# Altium footprint library STM32F407ZGT6_CORE_BOARD.PcbLib: 21 footprints (part 1 of 2)
Each footprint in its own frame and in the unit in brackets; x right, y up, seen from the top. Pads: shape width x height; smd on the part's side, far side on the other; paste and mask are expansions set on the pad; w line width, h text height; cw(c..) or ccw(c..) is an arc to the next point about the centre after c.
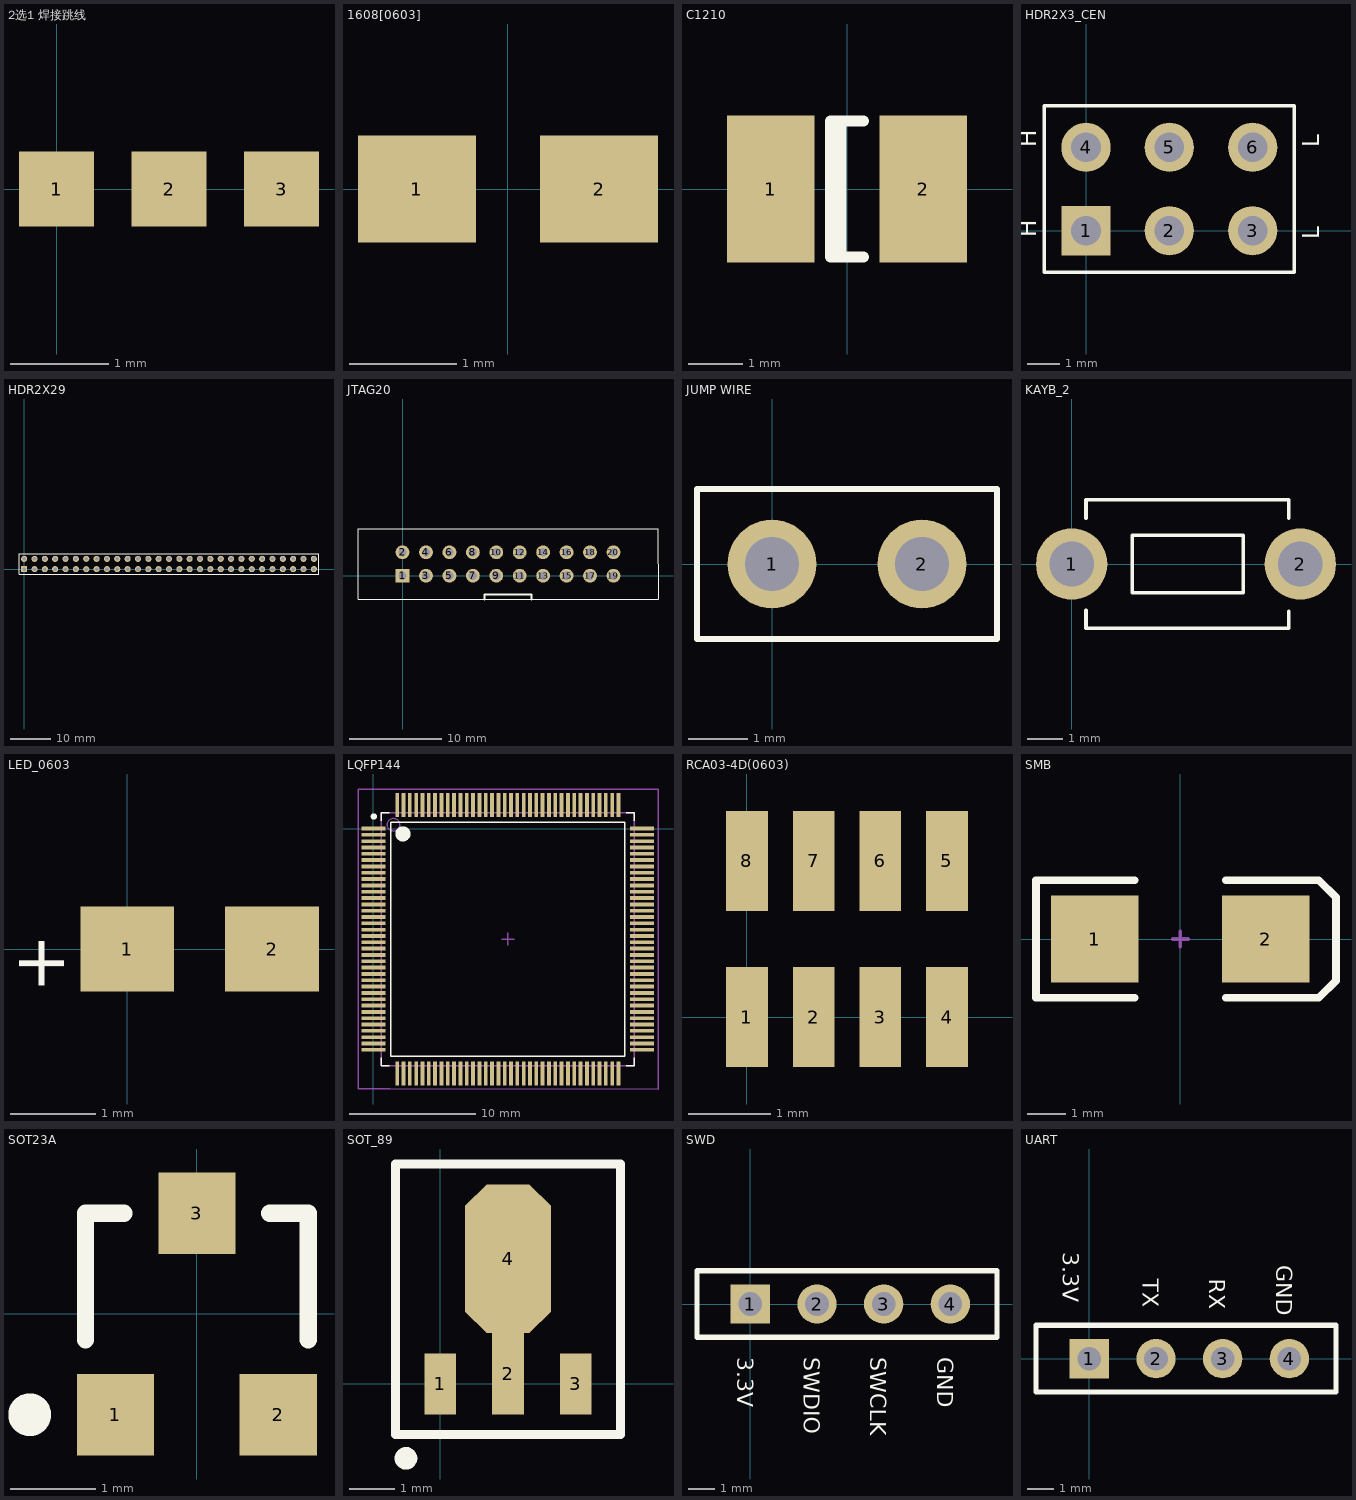
[diagram p0: the footprints below, top view; thin cyan lines are the x and y axes]

## 2选1 焊接跳线 [mil]
pads (3):
  rect 30x30 smd: 1(0,0) 2(45,0) 3(90,0)

## 1608[0603] [mm] "Chip Capacitor; Body 1.6 x 0.8 mm (LxW typ)"
height 1.35
pads (2):
  rect 1.1x1 smd: 1(-0.85,0) 2(0.85,0)

## C1210 [mm] "Chip Capacitor; Body 3.2 x 2.5 mm (LxW typ)"
height 1.35
pads (2):
  rect 1.6x2.7 smd: 1(-1.4,0) 2(1.4,0)
Top Overlay:
  lines w0.2: -0.11,-1.25 -0.11,1.25 ; 0.3,-1.25 -0.3,-1.25 -0.3,1.25 0.3,1.25

## HDR2X3_CEN [mm] "Connector; Header; 3x2 Position"
pads (6):
  rect 1.5x1.5 hole 0.9: 1(0,0)
  round 1.5 hole 0.9: 2(2.54,0) 3(5.08,0) 4(0,2.54) 5(2.54,2.54) 6(5.08,2.54)
Top Overlay:
  lines w0.102: -1.27,-1.27 6.35,-1.27 6.35,3.81 -1.27,3.81 -1.27,-1.27
  text "L" at 7.112,2.54 h0.51
  text "L" at 7.112,-0.254 h0.51
  text "H" at -1.524,-0.203 h0.51
  text "H" at -1.524,2.54 h0.51

## HDR2X29 [mm] "Connector; Header; 29x2 Position"
pads (58):
  rect 1.5x1.5 hole 0.9: 1(0,0)
  round 1.5 hole 0.9: 2(0,2.54) 3(2.54,0) 4(2.54,2.54) 5(5.08,0) 6(5.08,2.54) 7(7.62,0) 8(7.62,2.54) 9(10.16,0) 10(10.16,2.54) 11(12.7,0) 12(12.7,2.54) 13(15.24,0) 14(15.24,2.54) 15(17.78,0) 16(17.78,2.54) 17(20.32,0) 18(20.32,2.54) 19(22.86,0) 20(22.86,2.54) 21(25.4,0) 22(25.4,2.54) 23(27.94,0) 24(27.94,2.54) 25(30.48,0) 26(30.48,2.54) 27(33.02,0) 28(33.02,2.54) 29(35.56,0) 30(35.56,2.54) 31(38.1,0) 32(38.1,2.54) 33(40.64,0) 34(40.64,2.54) 35(43.18,0) 36(43.18,2.54) 37(45.72,0) 38(45.72,2.54) 39(48.26,0) 40(48.26,2.54) 41(50.8,0) 42(50.8,2.54) 43(53.34,0) 44(53.34,2.54) 45(55.88,0) 46(55.88,2.54) 47(58.42,0) 48(58.42,2.54) 49(60.96,0) 50(60.96,2.54) 51(63.5,0) 52(63.5,2.54) 53(66.04,0) 54(66.04,2.54) 55(68.58,0) 56(68.58,2.54) 57(71.12,0) 58(71.12,2.54)
Top Overlay:
  lines w0.102: -1.27,-1.27 72.39,-1.27 72.39,3.81 -1.27,3.81 -1.27,-1.27

## JTAG20 [mm] "Pitch 2.54mm"
pads (20):
  rect 1.5x1.5 hole 0.9: 1(0,0)
  round 1.5 hole 0.9: 2(0,2.54) 3(2.54,0) 4(2.54,2.54) 5(5.08,0) 6(5.08,2.54) 7(7.62,0) 8(7.62,2.54) 9(10.16,0) 10(10.16,2.54) 11(12.7,0) 12(12.7,2.54) 13(15.24,0) 14(15.24,2.54) 15(17.78,0) 16(17.78,2.54) 17(20.32,0) 18(20.32,2.54) 19(22.86,0) 20(22.86,2.54)
Top Overlay:
  lines w0.102: -4.826,-2.54 1.905,-2.54 27.686,-2.54 27.686,5.08 1.905,5.08 -4.826,5.08 -4.826,-2.54
  lines w0.254: 8.89,-2.54 8.89,-2.032 13.97,-2.032 13.97,-2.54
Bottom Overlay:
  text "2" at -1.27,2.335 h0.61
  text "1" at -1.27,-0.459 h0.61
  text "20" at 25.019,2.286 h0.61
  text "19" at 25.019,-0.254 h0.61

## JUMP WIRE [mm] "2Leads,Pitch2.54mm[100mil],Hole0.9144mm[36mil]"
pads (2):
  round 1.5 hole 0.914: 1(0,0) 2(2.54,0)
Top Overlay:
  lines w0.102: -1.27,-1.27 -1.27,1.27 3.81,1.27 3.81,-1.27 -1.27,-1.27

## KAYB_2 [mil] "2Leads,Pitch6.5mm,Hole1.016mm[40mil]  1.3mm"
pads (2):
  round 80 hole 50: 1(0,0) 2(255.91,0)
Top Overlay:
  lines w4: 16,-52 16,-72 243,-72 243,-53 ; 16,51 16,72 243,72 243,51 ; 68,-32 68,32 192,32 192,-32 68,-32

## LED_0603 [mm]
pads (2):
  rect 1.1x1 smd: 1(0,0) 2(1.7,0)
Top Overlay:
  text "+" at -1.27,0.178 h0.61

## LQFP144 [mm]
pads (144):
  rect 1.9x0.3 smd: 1(0,0) 2(0,-0.5) 3(0,-1) 4(0,-1.5) 5(0,-2) 6(0,-2.5) 7(0,-3) 8(0,-3.5) 9(0,-4) 10(0,-4.5) 11(0,-5) 12(0,-5.5) 13(0,-6) 14(0,-6.5) 15(0,-7) 16(0,-7.5) 17(0,-8) 18(0,-8.5) 19(0,-9) 20(0,-9.5) 21(0,-10) 22(0,-10.5) 23(0,-11) 24(0,-11.5) 25(0,-12) 26(0,-12.5) 27(0,-13) 28(0,-13.5) 29(0,-14) 30(0,-14.5) 31(0,-15) 32(0,-15.5) 33(0,-16) 34(0,-16.5) 35(0,-17) 36(0,-17.5) 73(21.25,-17.5) 74(21.25,-17) 75(21.25,-16.5) 76(21.25,-16) 77(21.25,-15.5) 78(21.25,-15) 79(21.25,-14.5) 80(21.25,-14) 81(21.25,-13.5) 82(21.25,-13) 83(21.25,-12.5) 84(21.25,-12) 85(21.25,-11.5) 86(21.25,-11) 87(21.25,-10.5) 88(21.25,-10) 89(21.25,-9.5) 90(21.25,-9) 91(21.25,-8.5) 92(21.25,-8) 93(21.25,-7.5) 94(21.25,-7) 95(21.25,-6.5) 96(21.25,-6) 97(21.25,-5.5) 98(21.25,-5) 99(21.25,-4.5) 100(21.25,-4) 101(21.25,-3.5) 102(21.25,-3) 103(21.25,-2.5) 104(21.25,-2) 105(21.25,-1.5) 106(21.25,-1) 107(21.25,-0.5) 108(21.25,0)
  rect 0.3x1.9 smd: 37(1.875,-19.375) 38(2.375,-19.375) 39(2.875,-19.375) 40(3.375,-19.375) 41(3.875,-19.375) 42(4.375,-19.375) 43(4.875,-19.375) 44(5.375,-19.375) 45(5.875,-19.375) 46(6.375,-19.375) 47(6.875,-19.375) 48(7.375,-19.375) 49(7.875,-19.375) 50(8.375,-19.375) 51(8.875,-19.375) 52(9.375,-19.375) 53(9.875,-19.375) 54(10.375,-19.375) 55(10.875,-19.375) 56(11.375,-19.375) 57(11.875,-19.375) 58(12.375,-19.375) 59(12.875,-19.375) 60(13.375,-19.375) 61(13.875,-19.375) 62(14.375,-19.375) 63(14.875,-19.375) 64(15.375,-19.375) 65(15.875,-19.375) 66(16.375,-19.375) 67(16.875,-19.375) 68(17.375,-19.375) 69(17.875,-19.375) 70(18.375,-19.375) 71(18.875,-19.375) 72(19.375,-19.375) 109(19.375,1.875) 110(18.875,1.875) 111(18.375,1.875) 112(17.875,1.875) 113(17.375,1.875) 114(16.875,1.875) 115(16.375,1.875) 116(15.875,1.875) 117(15.375,1.875) 118(14.875,1.875) 119(14.375,1.875) 120(13.875,1.875) 121(13.375,1.875) 122(12.875,1.875) 123(12.375,1.875) 124(11.875,1.875) 125(11.375,1.875) 126(10.875,1.875) 127(10.375,1.875) 128(9.875,1.875) 129(9.375,1.875) 130(8.875,1.875) 131(8.375,1.875) 132(7.875,1.875) 133(7.375,1.875) 134(6.875,1.875) 135(6.375,1.875) 136(5.875,1.875) 137(5.375,1.875) 138(4.875,1.875) 139(4.375,1.875) 140(3.875,1.875) 141(3.375,1.875) 142(2.875,1.875) 143(2.375,1.875) 144(1.875,1.875)
Top Overlay:
  circle w0.25: c0.025,0.95 r0.125
  circle w0.6: c2.325,-0.425 r0.3
  lines w0.102: 0.625,-18.125 0.625,-18.75 1.25,-18.75 ; 0.625,0.625 0.625,1.25 1.25,1.25 ; 1.625,0.5 19.875,0.5 19.875,-18 1.35,-18 1.35,0.5 2.7,0.5 ; 20,-18.75 20.625,-18.75 20.625,-18.125 ; 20,1.25 20.625,1.25 20.625,0.625
Mechanical 13:
  circle w0.1: c1.575,0.3 r0.5
  lines w0.1: 0.625,-18.75 0.625,1.25 20.625,1.25 20.625,-18.75 0.625,-18.75
Mechanical 15:
  lines w0.1: 1.275,-20.6 22.5,-20.6 22.5,3.125 ; 10.125,-8.75 11.125,-8.75 ; 10.625,-9.25 10.625,-8.25
  lines w0.102: 1.275,-20.6 -1.225,-20.6 -1.225,3.125 22.5,3.125
3D body: height 10, standoff 6.3, extent 0.625,-18.75 20.625,1.25
3D body: height 7, standoff 0, extent 0.254,-0.102 0.356,0.102
3D body: height 0.1, standoff 0, extent -0.305,-0.102 0.254,0.102
3D body: height 0.1, standoff 0, extent -0.305,-0.602 0.254,-0.398
3D body: height 7, standoff 0, extent 0.254,-0.602 0.356,-0.398
3D body: height 0.1, standoff 0, extent -0.305,-1.102 0.254,-0.898
3D body: height 7, standoff 0, extent 0.254,-1.102 0.356,-0.898
3D body: height 0.1, standoff 0, extent -0.305,-1.602 0.254,-1.398
3D body: height 7, standoff 0, extent 0.254,-1.602 0.356,-1.398
3D body: height 0.1, standoff 0, extent -0.305,-2.102 0.254,-1.898
3D body: height 7, standoff 0, extent 0.254,-2.102 0.356,-1.898
3D body: height 0.1, standoff 0, extent -0.305,-2.602 0.254,-2.398
3D body: height 7, standoff 0, extent 0.254,-2.602 0.356,-2.398
3D body: height 0.1, standoff 0, extent -0.305,-2.602 0.254,-2.398
3D body: height 7, standoff 0, extent 0.254,-2.602 0.356,-2.398
3D body: height 0.1, standoff 0, extent -0.305,-3.102 0.254,-2.898
3D body: height 7, standoff 0, extent 0.254,-3.102 0.356,-2.898
3D body: height 0.1, standoff 0, extent -0.305,-3.602 0.254,-3.398
3D body: height 7, standoff 0, extent 0.254,-3.602 0.356,-3.398
3D body: height 0.1, standoff 0, extent -0.305,-4.102 0.254,-3.898
3D body: height 7, standoff 0, extent 0.254,-4.102 0.356,-3.898
3D body: height 0.1, standoff 0, extent -0.305,-4.602 0.254,-4.398
3D body: height 7, standoff 0, extent 0.254,-4.602 0.356,-4.398
3D body: height 0.1, standoff 0, extent -0.305,-5.102 0.254,-4.898
3D body: height 7, standoff 0, extent 0.254,-5.102 0.356,-4.898
3D body: height 0.1, standoff 0, extent -0.305,-5.602 0.254,-5.398
3D body: height 7, standoff 0, extent 0.254,-5.602 0.356,-5.398
3D body: height 0.1, standoff 0, extent -0.305,-6.102 0.254,-5.898
3D body: height 7, standoff 0, extent 0.254,-6.102 0.356,-5.898
3D body: height 0.1, standoff 0, extent -0.305,-6.602 0.254,-6.398
3D body: height 7, standoff 0, extent 0.254,-6.602 0.356,-6.398
3D body: height 0.1, standoff 0, extent -0.305,-7.102 0.254,-6.898
3D body: height 7, standoff 0, extent 0.254,-7.102 0.356,-6.898
3D body: height 0.1, standoff 0, extent -0.305,-7.602 0.254,-7.398
3D body: height 7, standoff 0, extent 0.254,-7.602 0.356,-7.398
3D body: height 0.1, standoff 0, extent -0.305,-8.102 0.254,-7.898
3D body: height 7, standoff 0, extent 0.254,-8.102 0.356,-7.898
3D body: height 0.1, standoff 0, extent -0.305,-8.602 0.254,-8.398
3D body: height 7, standoff 0, extent 0.254,-8.602 0.356,-8.398
3D body: height 0.1, standoff 0, extent -0.305,-9.102 0.254,-8.898
3D body: height 7, standoff 0, extent 0.254,-9.102 0.356,-8.898
3D body: height 0.1, standoff 0, extent -0.305,-9.602 0.254,-9.398
3D body: height 7, standoff 0, extent 0.254,-9.602 0.356,-9.398
3D body: height 0.1, standoff 0, extent -0.305,-10.102 0.254,-9.898
3D body: height 7, standoff 0, extent 0.254,-10.102 0.356,-9.898
3D body: height 0.1, standoff 0, extent -0.305,-10.602 0.254,-10.398
3D body: height 7, standoff 0, extent 0.254,-10.602 0.356,-10.398
3D body: height 0.1, standoff 0, extent -0.305,-11.102 0.254,-10.898
3D body: height 7, standoff 0, extent 0.254,-11.102 0.356,-10.898
3D body: height 0.1, standoff 0, extent -0.305,-11.602 0.254,-11.398
3D body: height 7, standoff 0, extent 0.254,-11.602 0.356,-11.398
3D body: height 0.1, standoff 0, extent -0.305,-12.102 0.254,-11.898
3D body: height 7, standoff 0, extent 0.254,-12.102 0.356,-11.898
3D body: height 0.1, standoff 0, extent -0.305,-12.602 0.254,-12.398
3D body: height 7, standoff 0, extent 0.254,-12.602 0.356,-12.398
3D body: height 0.1, standoff 0, extent -0.305,-13.102 0.254,-12.898
3D body: height 7, standoff 0, extent 0.254,-13.102 0.356,-12.898
3D body: height 0.1, standoff 0, extent -0.305,-13.602 0.254,-13.398
3D body: height 7, standoff 0, extent 0.254,-13.602 0.356,-13.398
3D body: height 0.1, standoff 0, extent -0.305,-14.102 0.254,-13.898
3D body: height 7, standoff 0, extent 0.254,-14.102 0.356,-13.898
3D body: height 0.1, standoff 0, extent -0.305,-14.602 0.254,-14.398
3D body: height 7, standoff 0, extent 0.254,-14.602 0.356,-14.398
3D body: height 0.1, standoff 0, extent -0.305,-15.102 0.254,-14.898
3D body: height 7, standoff 0, extent 0.254,-15.102 0.356,-14.898
3D body: height 0.1, standoff 0, extent -0.305,-15.602 0.254,-15.398
3D body: height 7, standoff 0, extent 0.254,-15.602 0.356,-15.398
3D body: height 0.1, standoff 0, extent -0.305,-16.102 0.254,-15.898
3D body: height 7, standoff 0, extent 0.254,-16.102 0.356,-15.898
3D body: height 0.1, standoff 0, extent -0.305,-16.602 0.254,-16.398
3D body: height 7, standoff 0, extent 0.254,-16.602 0.356,-16.398
3D body: height 0.1, standoff 0, extent -0.305,-17.102 0.254,-16.898
3D body: height 7, standoff 0, extent 0.254,-17.102 0.356,-16.898
3D body: height 0.1, standoff 0, extent -0.305,-17.602 0.254,-17.398
3D body: height 7, standoff 0, extent 0.254,-17.602 0.356,-17.398
3D body: height 7, standoff 0, extent 1.773,1.519 1.977,1.621
3D body: height 0.1, standoff 0, extent 1.773,1.621 1.977,2.18
3D body: height 7, standoff 0, extent 2.273,1.519 2.477,1.621
3D body: height 0.1, standoff 0, extent 2.273,1.621 2.477,2.18
3D body: height 7, standoff 0, extent 2.773,1.519 2.977,1.621
3D body: height 0.1, standoff 0, extent 2.773,1.621 2.977,2.18
3D body: height 7, standoff 0, extent 3.273,1.519 3.477,1.621
3D body: height 0.1, standoff 0, extent 3.273,1.621 3.477,2.18
3D body: height 7, standoff 0, extent 3.773,1.519 3.977,1.621
3D body: height 0.1, standoff 0, extent 3.773,1.621 3.977,2.18
3D body: height 7, standoff 0, extent 4.273,1.519 4.477,1.621
3D body: height 0.1, standoff 0, extent 4.273,1.621 4.477,2.18
3D body: height 7, standoff 0, extent 4.773,1.519 4.977,1.621
3D body: height 0.1, standoff 0, extent 4.773,1.621 4.977,2.18
3D body: height 7, standoff 0, extent 5.273,1.519 5.477,1.621
3D body: height 0.1, standoff 0, extent 5.273,1.621 5.477,2.18
3D body: height 7, standoff 0, extent 5.773,1.519 5.977,1.621
3D body: height 0.1, standoff 0, extent 5.773,1.621 5.977,2.18
3D body: height 7, standoff 0, extent 6.273,1.519 6.477,1.621
3D body: height 0.1, standoff 0, extent 6.273,1.621 6.477,2.18
3D body: height 7, standoff 0, extent 6.773,1.519 6.977,1.621
3D body: height 0.1, standoff 0, extent 6.773,1.621 6.977,2.18
3D body: height 7, standoff 0, extent 7.273,1.519 7.477,1.621
3D body: height 0.1, standoff 0, extent 7.273,1.621 7.477,2.18
3D body: height 7, standoff 0, extent 7.773,1.519 7.977,1.621
3D body: height 0.1, standoff 0, extent 7.773,1.621 7.977,2.18
3D body: height 7, standoff 0, extent 8.273,1.519 8.477,1.621
3D body: height 0.1, standoff 0, extent 8.273,1.621 8.477,2.18
3D body: height 7, standoff 0, extent 8.773,1.519 8.977,1.621
3D body: height 0.1, standoff 0, extent 8.773,1.621 8.977,2.18
3D body: height 7, standoff 0, extent 9.273,1.519 9.477,1.621
3D body: height 0.1, standoff 0, extent 9.273,1.621 9.477,2.18
3D body: height 7, standoff 0, extent 9.773,1.519 9.977,1.621
3D body: height 0.1, standoff 0, extent 9.773,1.621 9.977,2.18
3D body: height 7, standoff 0, extent 10.273,1.519 10.477,1.621
3D body: height 0.1, standoff 0, extent 10.273,1.621 10.477,2.18
3D body: height 7, standoff 0, extent 10.773,1.519 10.977,1.621
3D body: height 0.1, standoff 0, extent 10.773,1.621 10.977,2.18
3D body: height 7, standoff 0, extent 11.273,1.519 11.477,1.621
3D body: height 0.1, standoff 0, extent 11.273,1.621 11.477,2.18
3D body: height 7, standoff 0, extent 11.773,1.519 11.977,1.621
3D body: height 0.1, standoff 0, extent 11.773,1.621 11.977,2.18
3D body: height 7, standoff 0, extent 12.273,1.519 12.477,1.621
3D body: height 0.1, standoff 0, extent 12.273,1.621 12.477,2.18
3D body: height 7, standoff 0, extent 12.773,1.519 12.977,1.621
3D body: height 0.1, standoff 0, extent 12.773,1.621 12.977,2.18
3D body: height 7, standoff 0, extent 13.273,1.519 13.477,1.621
3D body: height 0.1, standoff 0, extent 13.273,1.621 13.477,2.18
3D body: height 7, standoff 0, extent 13.773,1.519 13.977,1.621
3D body: height 0.1, standoff 0, extent 13.773,1.621 13.977,2.18
3D body: height 7, standoff 0, extent 14.273,1.519 14.477,1.621
3D body: height 0.1, standoff 0, extent 14.273,1.621 14.477,2.18
3D body: height 7, standoff 0, extent 14.773,1.519 14.977,1.621
3D body: height 0.1, standoff 0, extent 14.773,1.621 14.977,2.18
3D body: height 7, standoff 0, extent 15.273,1.519 15.477,1.621
3D body: height 0.1, standoff 0, extent 15.273,1.621 15.477,2.18
3D body: height 7, standoff 0, extent 15.773,1.519 15.977,1.621
3D body: height 0.1, standoff 0, extent 15.773,1.621 15.977,2.18
3D body: height 7, standoff 0, extent 16.273,1.519 16.477,1.621
3D body: height 0.1, standoff 0, extent 16.273,1.621 16.477,2.18
3D body: height 7, standoff 0, extent 16.773,1.519 16.977,1.621
3D body: height 0.1, standoff 0, extent 16.773,1.621 16.977,2.18
3D body: height 7, standoff 0, extent 16.773,1.519 16.977,1.621
3D body: height 0.1, standoff 0, extent 16.773,1.621 16.977,2.18
3D body: height 7, standoff 0, extent 17.273,1.519 17.477,1.621
3D body: height 0.1, standoff 0, extent 17.273,1.621 17.477,2.18
3D body: height 7, standoff 0, extent 17.773,1.519 17.977,1.621
3D body: height 0.1, standoff 0, extent 17.773,1.621 17.977,2.18
3D body: height 7, standoff 0, extent 18.273,1.519 18.477,1.621
3D body: height 0.1, standoff 0, extent 18.273,1.621 18.477,2.18
3D body: height 7, standoff 0, extent 18.773,1.519 18.977,1.621
3D body: height 0.1, standoff 0, extent 18.773,1.621 18.977,2.18
3D body: height 0.1, standoff 0, extent 19.273,1.621 19.477,2.18
3D body: height 7, standoff 0, extent 19.273,1.519 19.477,1.621
3D body: height 7, standoff 0, extent 20.894,-0.102 20.996,0.102
3D body: height 0.1, standoff 0, extent 20.996,-0.102 21.555,0.102
3D body: height 7, standoff 0, extent 20.894,-0.602 20.996,-0.398
3D body: height 0.1, standoff 0, extent 20.996,-0.602 21.555,-0.398
3D body: height 7, standoff 0, extent 20.894,-1.102 20.996,-0.898
3D body: height 0.1, standoff 0, extent 20.996,-1.102 21.555,-0.898
3D body: height 7, standoff 0, extent 20.894,-1.602 20.996,-1.398
3D body: height 0.1, standoff 0, extent 20.996,-1.602 21.555,-1.398
3D body: height 7, standoff 0, extent 20.894,-2.102 20.996,-1.898
3D body: height 0.1, standoff 0, extent 20.996,-2.102 21.555,-1.898
3D body: height 7, standoff 0, extent 20.894,-2.602 20.996,-2.398
3D body: height 0.1, standoff 0, extent 20.996,-2.602 21.555,-2.398
3D body: height 7, standoff 0, extent 20.894,-3.102 20.996,-2.898
3D body: height 0.1, standoff 0, extent 20.996,-3.102 21.555,-2.898
3D body: height 7, standoff 0, extent 20.894,-3.602 20.996,-3.398
3D body: height 0.1, standoff 0, extent 20.996,-3.602 21.555,-3.398
3D body: height 7, standoff 0, extent 20.894,-4.102 20.996,-3.898
3D body: height 0.1, standoff 0, extent 20.996,-4.102 21.555,-3.898
3D body: height 7, standoff 0, extent 20.894,-4.602 20.996,-4.398
3D body: height 0.1, standoff 0, extent 20.996,-4.602 21.555,-4.398
3D body: height 7, standoff 0, extent 20.894,-5.102 20.996,-4.898
3D body: height 0.1, standoff 0, extent 20.996,-5.102 21.555,-4.898
3D body: height 7, standoff 0, extent 20.894,-5.602 20.996,-5.398
3D body: height 0.1, standoff 0, extent 20.996,-5.602 21.555,-5.398
3D body: height 7, standoff 0, extent 20.894,-6.102 20.996,-5.898
3D body: height 0.1, standoff 0, extent 20.996,-6.102 21.555,-5.898
3D body: height 7, standoff 0, extent 20.894,-6.602 20.996,-6.398
3D body: height 0.1, standoff 0, extent 20.996,-6.602 21.555,-6.398
3D body: height 7, standoff 0, extent 20.894,-7.102 20.996,-6.898
3D body: height 0.1, standoff 0, extent 20.996,-7.102 21.555,-6.898
3D body: height 7, standoff 0, extent 20.894,-7.602 20.996,-7.398
3D body: height 0.1, standoff 0, extent 20.996,-7.602 21.555,-7.398
3D body: height 7, standoff 0, extent 20.894,-8.102 20.996,-7.898
3D body: height 0.1, standoff 0, extent 20.996,-8.102 21.555,-7.898
3D body: height 7, standoff 0, extent 20.894,-8.602 20.996,-8.398
3D body: height 0.1, standoff 0, extent 20.996,-8.602 21.555,-8.398
3D body: height 7, standoff 0, extent 20.894,-9.102 20.996,-8.898
3D body: height 0.1, standoff 0, extent 20.996,-9.102 21.555,-8.898
3D body: height 7, standoff 0, extent 20.894,-9.602 20.996,-9.398
3D body: height 0.1, standoff 0, extent 20.996,-9.602 21.555,-9.398
3D body: height 7, standoff 0, extent 20.894,-10.102 20.996,-9.898
3D body: height 0.1, standoff 0, extent 20.996,-10.102 21.555,-9.898
3D body: height 7, standoff 0, extent 20.894,-10.602 20.996,-10.398
3D body: height 0.1, standoff 0, extent 20.996,-10.602 21.555,-10.398
3D body: height 7, standoff 0, extent 20.894,-11.102 20.996,-10.898
3D body: height 0.1, standoff 0, extent 20.996,-11.102 21.555,-10.898
3D body: height 7, standoff 0, extent 20.894,-11.602 20.996,-11.398
3D body: height 0.1, standoff 0, extent 20.996,-11.602 21.555,-11.398
3D body: height 7, standoff 0, extent 20.894,-12.102 20.996,-11.898
3D body: height 0.1, standoff 0, extent 20.996,-12.102 21.555,-11.898
3D body: height 7, standoff 0, extent 20.894,-12.602 20.996,-12.398
3D body: height 0.1, standoff 0, extent 20.996,-12.602 21.555,-12.398
3D body: height 7, standoff 0, extent 20.894,-13.102 20.996,-12.898
3D body: height 0.1, standoff 0, extent 20.996,-13.102 21.555,-12.898
3D body: height 7, standoff 0, extent 20.894,-13.602 20.996,-13.398
3D body: height 0.1, standoff 0, extent 20.996,-13.602 21.555,-13.398
3D body: height 7, standoff 0, extent 20.894,-14.102 20.996,-13.898
3D body: height 0.1, standoff 0, extent 20.996,-14.102 21.555,-13.898
3D body: height 7, standoff 0, extent 20.894,-14.602 20.996,-14.398
3D body: height 0.1, standoff 0, extent 20.996,-14.602 21.555,-14.398
3D body: height 7, standoff 0, extent 20.894,-15.102 20.996,-14.898
3D body: height 0.1, standoff 0, extent 20.996,-15.102 21.555,-14.898
3D body: height 7, standoff 0, extent 20.894,-15.102 20.996,-14.898
3D body: height 0.1, standoff 0, extent 20.996,-15.102 21.555,-14.898
3D body: height 7, standoff 0, extent 20.894,-15.602 20.996,-15.398
3D body: height 0.1, standoff 0, extent 20.996,-15.602 21.555,-15.398
3D body: height 7, standoff 0, extent 20.894,-16.102 20.996,-15.898
3D body: height 0.1, standoff 0, extent 20.996,-16.102 21.555,-15.898
3D body: height 7, standoff 0, extent 20.894,-16.602 20.996,-16.398
3D body: height 0.1, standoff 0, extent 20.996,-16.602 21.555,-16.398
3D body: height 7, standoff 0, extent 20.894,-17.102 20.996,-16.898
3D body: height 0.1, standoff 0, extent 20.996,-17.102 21.555,-16.898
3D body: height 0.1, standoff 0, extent 20.996,-17.602 21.555,-17.398
3D body: height 7, standoff 0, extent 20.894,-17.602 20.996,-17.398
3D body: height 7, standoff 0, extent 19.273,-19.121 19.477,-19.019
3D body: height 0.1, standoff 0, extent 19.273,-19.68 19.477,-19.121
3D body: height 7, standoff 0, extent 18.773,-19.121 18.977,-19.019
3D body: height 0.1, standoff 0, extent 18.773,-19.68 18.977,-19.121
3D body: height 7, standoff 0, extent 18.273,-19.121 18.477,-19.019
3D body: height 0.1, standoff 0, extent 18.273,-19.68 18.477,-19.121
3D body: height 7, standoff 0, extent 17.773,-19.121 17.977,-19.019
3D body: height 0.1, standoff 0, extent 17.773,-19.68 17.977,-19.121
3D body: height 7, standoff 0, extent 17.273,-19.121 17.477,-19.019
3D body: height 0.1, standoff 0, extent 17.273,-19.68 17.477,-19.121
3D body: height 7, standoff 0, extent 16.773,-19.121 16.977,-19.019
3D body: height 0.1, standoff 0, extent 16.773,-19.68 16.977,-19.121
3D body: height 7, standoff 0, extent 16.273,-19.121 16.477,-19.019
3D body: height 0.1, standoff 0, extent 16.273,-19.68 16.477,-19.121
3D body: height 7, standoff 0, extent 15.773,-19.121 15.977,-19.019
3D body: height 0.1, standoff 0, extent 15.773,-19.68 15.977,-19.121
3D body: height 7, standoff 0, extent 15.273,-19.121 15.477,-19.019
3D body: height 0.1, standoff 0, extent 15.273,-19.68 15.477,-19.121
3D body: height 7, standoff 0, extent 14.773,-19.121 14.977,-19.019
3D body: height 0.1, standoff 0, extent 14.773,-19.68 14.977,-19.121
3D body: height 7, standoff 0, extent 14.273,-19.121 14.477,-19.019
3D body: height 0.1, standoff 0, extent 14.273,-19.68 14.477,-19.121
3D body: height 7, standoff 0, extent 13.773,-19.121 13.977,-19.019
3D body: height 0.1, standoff 0, extent 13.773,-19.68 13.977,-19.121
3D body: height 7, standoff 0, extent 13.273,-19.121 13.477,-19.019
3D body: height 0.1, standoff 0, extent 13.273,-19.68 13.477,-19.121
3D body: height 7, standoff 0, extent 12.773,-19.121 12.977,-19.019
3D body: height 0.1, standoff 0, extent 12.773,-19.68 12.977,-19.121
3D body: height 7, standoff 0, extent 12.273,-19.121 12.477,-19.019
3D body: height 0.1, standoff 0, extent 12.273,-19.68 12.477,-19.121
3D body: height 7, standoff 0, extent 11.773,-19.121 11.977,-19.019
3D body: height 0.1, standoff 0, extent 11.773,-19.68 11.977,-19.121
3D body: height 7, standoff 0, extent 11.273,-19.121 11.477,-19.019
3D body: height 0.1, standoff 0, extent 11.273,-19.68 11.477,-19.121
3D body: height 7, standoff 0, extent 10.773,-19.121 10.977,-19.019
3D body: height 0.1, standoff 0, extent 10.773,-19.68 10.977,-19.121
3D body: height 7, standoff 0, extent 10.273,-19.121 10.477,-19.019
3D body: height 0.1, standoff 0, extent 10.273,-19.68 10.477,-19.121
3D body: height 7, standoff 0, extent 9.773,-19.121 9.977,-19.019
3D body: height 0.1, standoff 0, extent 9.773,-19.68 9.977,-19.121
3D body: height 7, standoff 0, extent 9.273,-19.121 9.477,-19.019
3D body: height 0.1, standoff 0, extent 9.273,-19.68 9.477,-19.121
3D body: height 7, standoff 0, extent 8.773,-19.121 8.977,-19.019
3D body: height 0.1, standoff 0, extent 8.773,-19.68 8.977,-19.121
3D body: height 7, standoff 0, extent 8.273,-19.121 8.477,-19.019
3D body: height 0.1, standoff 0, extent 8.273,-19.68 8.477,-19.121
3D body: height 7, standoff 0, extent 7.773,-19.121 7.977,-19.019
3D body: height 0.1, standoff 0, extent 7.773,-19.68 7.977,-19.121
3D body: height 7, standoff 0, extent 7.273,-19.121 7.477,-19.019
3D body: height 0.1, standoff 0, extent 7.273,-19.68 7.477,-19.121
3D body: height 7, standoff 0, extent 6.773,-19.121 6.977,-19.019
3D body: height 0.1, standoff 0, extent 6.773,-19.68 6.977,-19.121
3D body: height 7, standoff 0, extent 6.273,-19.121 6.477,-19.019
3D body: height 0.1, standoff 0, extent 6.273,-19.68 6.477,-19.121
3D body: height 7, standoff 0, extent 5.773,-19.121 5.977,-19.019
3D body: height 0.1, standoff 0, extent 5.773,-19.68 5.977,-19.121
3D body: height 7, standoff 0, extent 5.273,-19.121 5.477,-19.019
3D body: height 0.1, standoff 0, extent 5.273,-19.68 5.477,-19.121
3D body: height 7, standoff 0, extent 4.773,-19.121 4.977,-19.019
3D body: height 0.1, standoff 0, extent 4.773,-19.68 4.977,-19.121
3D body: height 7, standoff 0, extent 4.273,-19.121 4.477,-19.019
3D body: height 0.1, standoff 0, extent 4.273,-19.68 4.477,-19.121
3D body: height 7, standoff 0, extent 4.273,-19.121 4.477,-19.019
3D body: height 0.1, standoff 0, extent 4.273,-19.68 4.477,-19.121
3D body: height 7, standoff 0, extent 3.773,-19.121 3.977,-19.019
3D body: height 0.1, standoff 0, extent 3.773,-19.68 3.977,-19.121
3D body: height 7, standoff 0, extent 3.273,-19.121 3.477,-19.019
3D body: height 0.1, standoff 0, extent 3.273,-19.68 3.477,-19.121
3D body: height 7, standoff 0, extent 2.773,-19.121 2.977,-19.019
3D body: height 0.1, standoff 0, extent 2.773,-19.68 2.977,-19.121
3D body: height 7, standoff 0, extent 2.273,-19.121 2.477,-19.019
3D body: height 0.1, standoff 0, extent 2.273,-19.68 2.477,-19.121
3D body: height 0.1, standoff 0, extent 1.773,-19.68 1.977,-19.121
3D body: height 7, standoff 0, extent 1.773,-19.121 1.977,-19.019

## RCA03-4D(0603) [mil]
pads (8):
  rect 20x48 smd: 1(0,0) 2(32,0) 3(64,0) 4(96,0) 5(96,75) 6(64,75) 7(32,75) 8(0,75)

## SMB [mm] "DO-214-AA/SMB; 2 C-Bend Leads; Body 5.3 x 3.6 mm, inc. leads (LxW)"
height 2.54
pads (2):
  rect 2.3x2.3 smd: 1(-2.25,0) 2(2.25,0)
Top Overlay:
  lines w0.2: -1.2,-1.55 -3.8,-1.55 -3.8,1.55 -1.2,1.55 ; 1.2,-1.55 3.65,-1.55 4.1,-1.1 4.1,1.1 3.65,1.55 1.2,1.55
Mechanical 1:
  lines w0.1: -0.2,0 0.2,0 ; 0,-0.2 0,0.2

## SOT23A [mm] "SOT-23; 3 Leads; Body 3.0 x 2.5 mm, inc. leads (LxW max)"
height 1.2
pads (3):
  rect 0.9x0.95 smd: 1(-0.95,-1.175) 2(0.95,-1.175) 3(0,1.175)
Top Overlay:
  circle w0.25: c-1.95,-1.175 r0.125
  lines w0.2: -1.3,-0.3 -1.3,1.175 -0.85,1.175 ; 0.85,1.175 1.3,1.175 1.3,-0.3

## SOT_89 [mm] "SOT-89; Body 4.6 x 4.25 mm, inc. leads (LxW max)"
height 1.6
pads (4):
  rect 0.7x1.35 smd: 1(0,0) 3(3,0)
  rect 0.7x1.8 smd: 2(1.5,0.225)
  oct 1.9x3.3 smd: 4(1.5,2.775)
Top Overlay:
  circle w0.25: c-0.762,-1.653 r0.125
  lines w0.2: -1,-1.125 -1,4.875 4,4.875 4,-1.125 -1,-1.125

## SWD [mm] "SWD接口4Leads,Pitch2.54mm"
pads (4):
  rect 1.5x1.5 hole 0.9: 1(0,0)
  round 1.5 hole 0.9: 2(2.54,0) 3(5.08,0) 4(7.62,0)
Top Overlay:
  lines w0.2: -2.032,-1.27 -2.032,1.27 4.699,1.27 9.398,1.27 9.398,-1.27 3.175,-1.27 -2.032,-1.27
  text "3.3V" at -0.508,-2.032 h0.61
  text "SWDIO" at 2.032,-2.032 h0.61
  text "SWCLK" at 4.572,-2.032 h0.61
  text "GND" at 7.112,-2.032 h0.61

## UART [mm] "UART接口,4Leads,Pitch2.54mm"
pads (4):
  rect 1.5x1.5 hole 0.9: 1(0,0)
  round 1.5 hole 0.9: 2(2.54,0) 3(5.08,0) 4(7.62,0)
Top Overlay:
  lines w0.2: -2.032,-1.27 3.175,-1.27 9.398,-1.27 9.398,1.27 4.699,1.27 -2.032,1.27 -2.032,-1.27
  text "GND" at 7.112,3.556 h0.61
  text "RX" at 4.572,3.048 h0.61
  text "TX" at 2.032,3.048 h0.61
  text "3.3V" at -1.016,4.064 h0.61